# Altium footprint library KSA1298YMTF.PcbLib: 1 footprints
Each footprint in its own frame and in the unit in brackets; x right, y up, seen from the top. Pads: shape width x height; smd on the part's side, far side on the other; paste and mask are expansions set on the pad; w line width, h text height; cw(c..) or ccw(c..) is an arc to the next point about the centre after c.
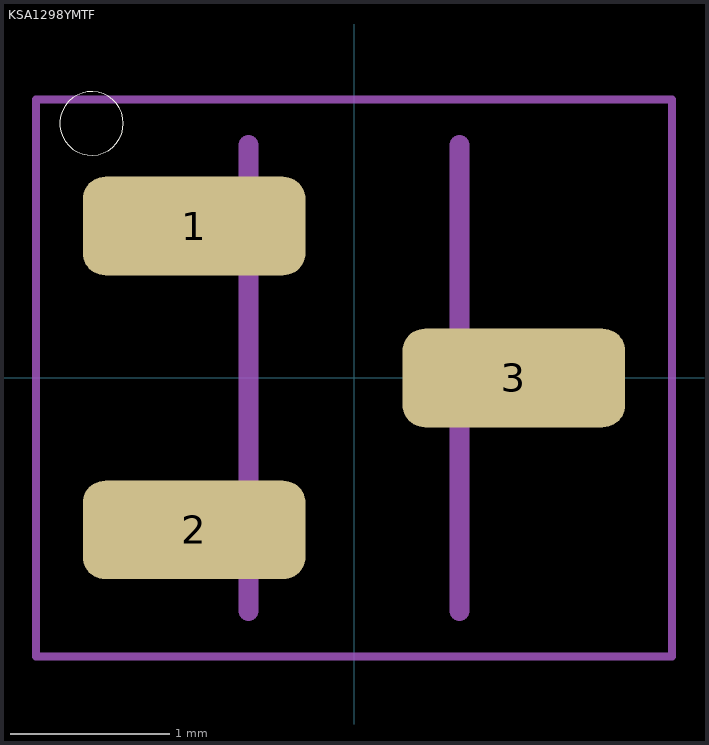
[diagram p0: the footprint, top view; thin cyan lines are the x and y axes]

## KSA1298YMTF [mm]
pads (3):
  rrect45% 1.4x0.62 smd: 1(-1.005,0.955) 2(-1.005,-0.955) 3(1.005,0)
Top Overlay:
  circle w0: c-1.65,1.6 r0.2
Mechanical 13:
  lines w0.127: -0.663,-1.465 -0.663,1.465 ; 0.663,-1.465 0.663,1.465
Mechanical 15:
  lines w0.05: -2,-1.75 -2,1.75 2,1.75 2,-1.75 -2,-1.75
3D body "step_temp.STEP": height 1.11, standoff 0, extent -1.45,-1.2 1.45,1.2